# Altium footprint library PcbLib1.PcbLib: 27 footprints (part 3 of 4)
Each footprint in its own frame and in the unit in brackets; x right, y up, seen from the top. Pads: shape width x height; smd on the part's side, far side on the other; paste and mask are expansions set on the pad; w line width, h text height; cw(c..) or ccw(c..) is an arc to the next point about the centre after c.
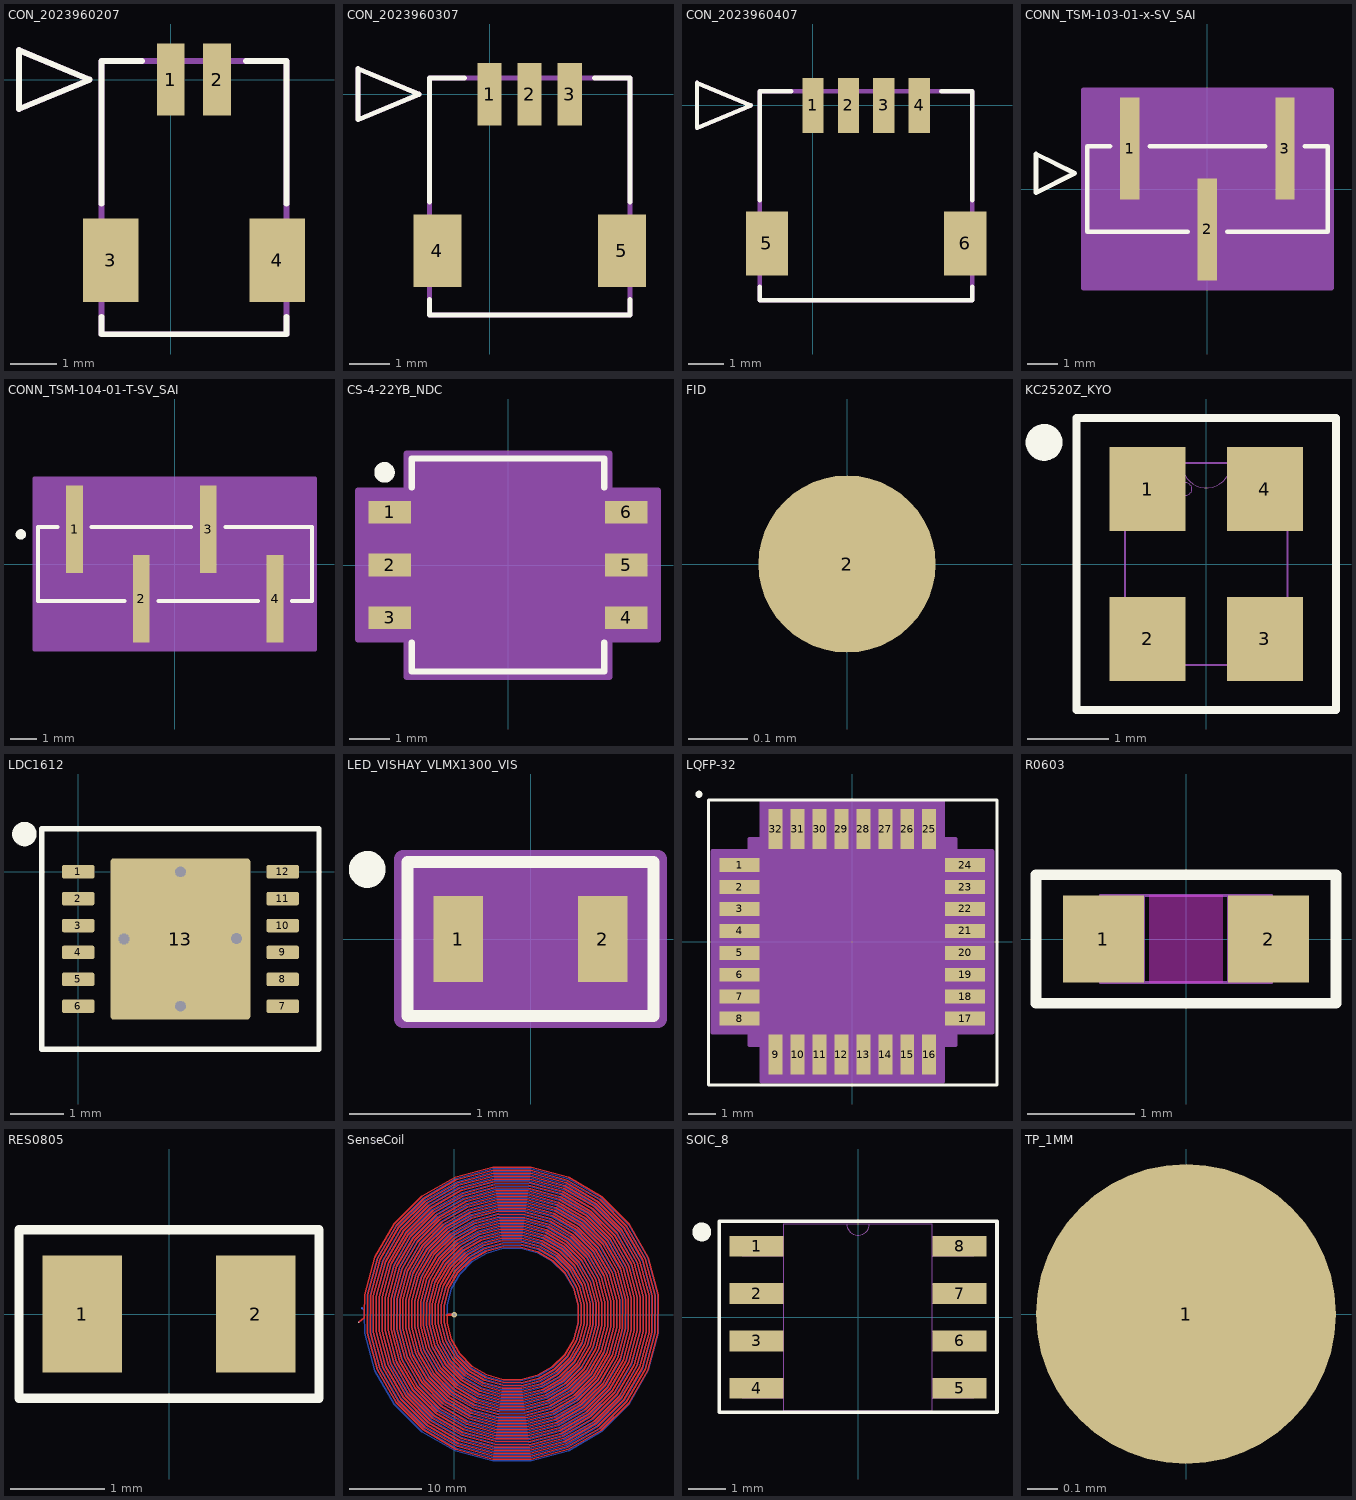
[diagram p2: the footprints below, top view; thin cyan lines are the x and y axes]

## CON_2023960207 [mm]
pads (4):
  rect 0.6x1.55 smd paste+0 mask+0.076: 1(0,0) 2(1,0)
  rect 1.2x1.8 smd paste+0 mask+0.076: 3(-1.3,-3.9) 4(2.3,-3.9)
Top Overlay:
  lines w0.127: -1.5,-5.12 -1.5,-5.5 2.5,-5.5 2.5,-5.12 ; -1.5,-2.68 -1.5,0.4 -0.62,0.4 ; 1.62,0.4 2.5,0.4 2.5,-2.68 ; -3.278,-0.635 -1.754,0 -3.278,0.635 -3.278,-0.635
Mechanical 13:
  lines w0.127: -3.278,-0.635 -1.754,0 -3.278,0.635 -3.278,-0.635 ; -1.5,-5.5 -1.5,0.4 2.5,0.4 2.5,-5.5 -1.5,-5.5
3D body "2023960207.stp": height 3.2, standoff 0.01, extent -1.5,-5.475 2.5,0.425

## CON_2023960307 [mm]
pads (5):
  rect 0.6x1.55 smd paste+0 mask+0.076: 1(0,0) 2(1,0) 3(2,0)
  rect 1.2x1.8 smd paste+0 mask+0.076: 4(-1.3,-3.9) 5(3.3,-3.9)
Top Overlay:
  lines w0.127: -1.5,-5.12 -1.5,-5.5 3.5,-5.5 3.5,-5.12 ; -1.5,-2.68 -1.5,0.4 -0.62,0.4 ; 2.62,0.4 3.5,0.4 3.5,-2.68 ; -3.278,-0.635 -1.754,0 -3.278,0.635 -3.278,-0.635
Mechanical 13:
  lines w0.127: -3.278,-0.635 -1.754,0 -3.278,0.635 -3.278,-0.635 ; -1.5,-5.5 -1.5,0.4 3.5,0.4 3.5,-5.5 -1.5,-5.5
3D body "2023960307.stp": height 3.2, standoff 0.01, extent -1.484,-5.469 3.516,0.431

## CON_2023960407 [mm]
pads (6):
  rect 0.6x1.55 smd paste+0 mask+0.076: 1(0,0) 2(1,0) 3(2,0) 4(3,0)
  rect 1.2x1.8 smd paste+0 mask+0.076: 5(-1.3,-3.9) 6(4.3,-3.9)
Top Overlay:
  lines w0.127: -1.5,-5.12 -1.5,-5.5 4.5,-5.5 4.5,-5.12 ; -1.5,-2.68 -1.5,0.4 -0.62,0.4 ; 3.62,0.4 4.5,0.4 4.5,-2.68 ; -3.278,-0.635 -1.754,0 -3.278,0.635 -3.278,-0.635
Mechanical 13:
  lines w0.127: -3.278,-0.635 -1.754,0 -3.278,0.635 -3.278,-0.635 ; -1.5,-5.5 -1.5,0.4 4.5,0.4 4.5,-5.5 -1.5,-5.5
3D body "2023960407.stp": height 3.2, standoff 0.01, extent -1.5,-5.475 4.5,0.425

## CONN_TSM-103-01-x-SV_SAI [mil]
pads (3):
  rect 25x131.56 smd paste+0 mask+0: 1(-100,52) 2(0,-52) 3(100,52)
Top Overlay:
  lines w6: -125.6,55 -155,55 -155,-55 -25.6,-55 ; -74.4,55 74.4,55 ; 25.6,-55 155,-55 155,55 125.6,55 ; -221.07,-4.72 -171.07,20.28 -221.07,45.28 -221.07,-4.72
Mechanical 13:
  lines w1: -221.07,45.28 -189.27,29.38 ; -150,-50 -150,50 150,50 150,-50 -150,-50
Mechanical 15:
  region: 160,-127.78 160,127.78 -160,127.78 -160,-127.78
  lines w6: -160,-127.78 160,-127.78 160,127.78 -160,127.78 -160,-127.78
3D body "CONN_TSM-103-01-x-SV_SAI.step": height 397.99, standoff 0, extent -150,-104.02 150,104.02

## CONN_TSM-104-01-T-SV_SAI [mil]
pads (4):
  rect 25x131.56 smd paste+0 mask+0: 1(-150,52) 2(-50,-52) 3(50,52) 4(150,-52)
Top Overlay:
  circle w10: c-230.31,44.29 r2.78
  lines w6: -175.6,55 -205,55 -205,-55 -75.6,-55 ; -124.4,55 24.4,55 ; -24.4,-55 124.4,-55 ; 75.6,55 205,55 205,-55 175.6,-55
Mechanical 13:
  lines w1: -200,-50 -200,50 200,50 200,-50 -200,-50
Mechanical 15:
  region: 210,-127.78 210,127.78 -210,127.78 -210,-127.78
  lines w6: -210,-127.78 210,-127.78 210,127.78 -210,127.78 -210,-127.78
3D body "CONN_TSM-104-01-T-SV_SAI.step": height 397.99, standoff 0, extent -200,-104.02 200,104.02

## CS-4-22YB_NDC [mil]
pads (6):
  rect 41.56x21.97 smd paste+0 mask+0: 1(-115,51.18) 2(-115,0) 3(-115,-51.18) 4(115,-51.18) 5(115,0) 6(115,51.18)
Top Overlay:
  circle w10: c-120,90 r5
  lines w6: -93.5,-75.25 -93.5,-103.5 93.5,-103.5 93.5,-75.25 ; -93.5,75.25 -93.5,103.5 93.5,103.5 93.5,75.25
Mechanical 13:
  lines w0: -12,98.5 ccw(c0,98.5) 12,98.5
  lines w1: -122,-61.18 -88.5,-61.18 -88.5,-41.18 -122,-41.18 -122,-61.18 ; -122,-10 -88.5,-10 -88.5,10 -122,10 -122,-10 ; -122,41.18 -88.5,41.18 -88.5,61.18 -122,61.18 -122,41.18 ; -88.5,-98.5 -88.5,98.5 88.5,98.5 88.5,-98.5 -88.5,-98.5 ; 88.5,-61.18 122,-61.18 122,-41.18 88.5,-41.18 88.5,-61.18 ; 88.5,-10 122,-10 122,10 88.5,10 88.5,-10 ; 88.5,41.18 122,41.18 122,61.18 88.5,61.18 88.5,41.18
  text "*" at -86,45.5 h50
Mechanical 15:
  region: -98.5,-72.17 -145.78,-72.17 -145.78,72.17 -98.5,72.17 -98.5,108.5 98.5,108.5 98.5,72.17 145.78,72.17 145.78,-72.17 98.5,-72.17 98.5,-108.5 -98.5,-108.5
  lines w6: -145.78,-72.17 -98.5,-72.17 -98.5,-108.5 98.5,-108.5 98.5,-72.17 145.78,-72.17 145.78,72.17 98.5,72.17 98.5,108.5 -98.5,108.5 -98.5,72.17 -145.78,72.17 -145.78,-72.17
3D body "CS-4-22YTB.stp": height 91.84, standoff 0.5, extent -122.05,-98.43 122.05,98.43

## FID [mm]
pads (1):
  round 0.3 smd paste-1 mask+0.5: 2(0,0)

## KC2520Z_KYO [mil]
pads (4):
  rect 37x41 smd paste+0 mask+0: 1(-28.5,36.42) 2(-28.5,-36.42) 3(28.5,-36.42) 4(28.5,36.42)
Top Overlay:
  circle w10: c-78.74,59.06 r3.94
  lines w3.94: -62.99,-70.87 62.99,-70.87 62.99,70.87 -62.99,70.87 -62.99,-70.87
Mechanical 13:
  circle w0: c-10,36.42 r3
  lines w0: -12,49 ccw(c0,49) 12,49
  lines w1: -39.5,-49 39.5,-49 39.5,49 -39.5,49 -39.5,-49
3D body "KC2520Z_KYO.step": height 32.09, standoff 0, extent -39.49,-49.02 39.49,49.02

## LDC1612 [mm]
pads (13):
  rrect25% 0.6x0.25 smd: 1(0,0) 2(0,-0.5) 3(0,-1) 4(0,-1.5) 5(0,-2) 6(0,-2.5) 7(3.8,-2.5) 8(3.8,-2) 9(3.8,-1.5) 10(3.8,-1) 11(3.8,-0.5) 12(3.8,0)
  rrect5% 2.6x3 smd paste-2.6 mask+0.102: 13(1.9,-1.25)
via 2.944,-1.241 diameter 0.3 hole 0.2
via 0.85,-1.25 diameter 0.3 hole 0.2
via 1.9,-2.5 diameter 0.3 hole 0.2
via 1.9,0 diameter 0.3 hole 0.2
Top Overlay:
  circle w0.254: c-1,0.7 r0.1
  lines w0.1: -0.675,-3.3 4.475,-3.3 4.475,0.8 -0.675,0.8 -0.675,-3.3
Top Paste:
  rectangle: 0.645,-2.575 1.795,-1.425
  rectangle: 2.005,-2.575 3.155,-1.425
  rectangle: 0.645,-1.075 1.795,0.075
  rectangle: 2.005,-1.075 3.155,0.075
3D body "DNT0012B.stp": height 0.8, standoff 0, extent -0.1,-3.25 3.9,0.75

## LED_VISHAY_VLMX1300_VIS [mil]
pads (2):
  rect 16x28 smd paste+0 mask+0: 1(-23.5,0) 2(23.5,0)
Top Overlay:
  circle w6: c-53.15,22.64 r3
  lines w3.94: -40,-25 40,-25 40,25 -40,25 -40,-25
Mechanical 13:
  circle w0: c0,0 r3
  lines w1: -31.5,-16 -31.5,16 31.5,16 31.5,-16 -31.5,-16
Mechanical 15:
  region: -41.5,-24 -41.5,24 -41.5,26 41.5,26 41.5,24 41.5,-24 41.5,-26 -41.5,-26
  lines w6: -41.5,-26 41.5,-26 41.5,-24 41.5,24 41.5,26 -41.5,26 -41.5,24 -41.5,-24 -41.5,-26
3D body "LED_VISHAY_VLMX1300_VIS.step": height 32.09, standoff 0, extent -31.5,-15.98 31.5,15.98

## LQFP-32 [mm]
pads (32):
  rect 1.462x0.507 smd paste+0 mask+0: 1(-4.115,2.8) 2(-4.115,2) 3(-4.115,1.2) 4(-4.115,0.4) 5(-4.115,-0.4) 6(-4.115,-1.2) 7(-4.115,-2) 8(-4.115,-2.8) 17(4.115,-2.8) 18(4.115,-2) 19(4.115,-1.2) 20(4.115,-0.4) 21(4.115,0.4) 22(4.115,1.2) 23(4.115,2) 24(4.115,2.8)
  rect 0.507x1.462 smd paste+0 mask+0: 9(-2.8,-4.115) 10(-2,-4.115) 11(-1.2,-4.115) 12(-0.4,-4.115) 13(0.4,-4.115) 14(1.2,-4.115) 15(2,-4.115) 16(2.8,-4.115) 25(2.8,4.115) 26(2,4.115) 27(1.2,4.115) 28(0.4,4.115) 29(-0.4,4.115) 30(-1.2,4.115) 31(-2,4.115) 32(-2.8,4.115)
Top Overlay:
  lines w0.1: -5.25,-5.225 -5.25,5.175 5.275,5.175 5.275,-5.225 -5.25,-5.225
  lines w0.254: -5.607,5.379 ccw(c-5.635,5.4) -5.6,5.4
Mechanical 13:
  lines w0.025: -3.505,2.235 -2.235,3.505 ; -4.496,-3.029 -3.505,-3.029 -3.505,-2.571 -4.496,-2.571 -4.496,-3.029 ; -4.496,-2.229 -3.505,-2.229 -3.505,-1.771 -4.496,-1.771 -4.496,-2.229 ; -4.496,-1.429 -3.505,-1.429 -3.505,-0.971 -4.496,-0.971 -4.496,-1.429 ; -4.496,-0.629 -3.505,-0.629 -3.505,-0.171 -4.496,-0.171 -4.496,-0.629 ; -4.496,0.171 -3.505,0.171 -3.505,0.629 -4.496,0.629 -4.496,0.171 ; -4.496,0.971 -3.505,0.971 -3.505,1.429 -4.496,1.429 -4.496,0.971 ; -4.496,1.771 -3.505,1.771 -3.505,2.229 -4.496,2.229 -4.496,1.771 ; -4.496,2.571 -3.505,2.571 -3.505,3.029 -4.496,3.029 -4.496,2.571 ; -3.505,-3.505 3.505,-3.505 3.505,3.505 -3.505,3.505 -3.505,-3.505 ; -3.029,-4.496 -2.571,-4.496 -2.571,-3.505 -3.029,-3.505 -3.029,-4.496 ; -3.029,3.505 -3.029,4.496 -2.571,4.496 -2.571,3.505 -3.029,3.505 ; -2.229,-4.496 -1.771,-4.496 -1.771,-3.505 -2.229,-3.505 -2.229,-4.496 ; -2.229,3.505 -2.229,4.496 -1.771,4.496 -1.771,3.505 -2.229,3.505 ; -1.429,-4.496 -0.971,-4.496 -0.971,-3.505 -1.429,-3.505 -1.429,-4.496 ; -1.429,3.505 -1.429,4.496 -0.971,4.496 -0.971,3.505 -1.429,3.505 ; -0.629,-4.496 -0.171,-4.496 -0.171,-3.505 -0.629,-3.505 -0.629,-4.496 ; -0.629,3.505 -0.629,4.496 -0.171,4.496 -0.171,3.505 -0.629,3.505 ; 0.171,-4.496 0.629,-4.496 0.629,-3.505 0.171,-3.505 0.171,-4.496 ; 0.171,3.505 0.171,4.496 0.629,4.496 0.629,3.505 0.171,3.505 ; 0.971,-4.496 1.429,-4.496 1.429,-3.505 0.971,-3.505 0.971,-4.496 ; 0.971,3.505 0.971,4.496 1.429,4.496 1.429,3.505 0.971,3.505 ; 1.771,-4.496 2.229,-4.496 2.229,-3.505 1.771,-3.505 1.771,-4.496 ; 1.771,3.505 1.771,4.496 2.229,4.496 2.229,3.505 1.771,3.505 ; 2.571,-4.496 3.029,-4.496 3.029,-3.505 2.571,-3.505 2.571,-4.496 ; 2.571,3.505 2.571,4.496 3.029,4.496 3.029,3.505 2.571,3.505 ; 3.505,-3.029 4.496,-3.029 4.496,-2.571 3.505,-2.571 3.505,-3.029 ; 3.505,-2.229 4.496,-2.229 4.496,-1.771 3.505,-1.771 3.505,-2.229 ; 3.505,-1.429 4.496,-1.429 4.496,-0.971 3.505,-0.971 3.505,-1.429 ; 3.505,-0.629 4.496,-0.629 4.496,-0.171 3.505,-0.171 3.505,-0.629 ; 3.505,0.171 4.496,0.171 4.496,0.629 3.505,0.629 3.505,0.171 ; 3.505,0.971 4.496,0.971 4.496,1.429 3.505,1.429 3.505,0.971 ; 3.505,1.771 4.496,1.771 4.496,2.229 3.505,2.229 3.505,1.771 ; 3.505,2.571 4.496,2.571 4.496,3.029 3.505,3.029 3.505,2.571
  text "*" at -3.442,2.565 h1.27
Mechanical 15:
  region: -3.308,-3.759 -3.759,-3.759 -3.759,-3.308 -5.1,-3.308 -5.1,3.308 -3.759,3.308 -3.759,3.759 -3.308,3.759 -3.308,5.1 3.308,5.1 3.308,3.759 3.759,3.759 3.759,3.308 5.1,3.308 5.1,-3.308 3.759,-3.308 3.759,-3.759 3.308,-3.759 3.308,-5.1 -3.308,-5.1
  lines w0.152: -5.1,-3.308 -5.1,3.308 -3.759,3.308 -3.759,3.759 -3.308,3.759 -3.308,5.1 3.308,5.1 3.308,3.759 3.759,3.759 3.759,3.308 5.1,3.308 5.1,-3.308 3.759,-3.308 3.759,-3.759 3.308,-3.759 3.308,-5.1 -3.308,-5.1 -3.308,-3.759 -3.759,-3.759 -3.759,-3.308 -5.1,-3.308
3D body "LQFP-32.step": height 1.6, standoff 0, extent -4.496,-4.496 4.496,4.496

## R0603 [mil]
pads (2):
  rect 29.78x32 smd paste+0 mask+0: 1(-30.39,0) 2(30.39,0)
Top Layer keep-out:
  region: -13.5,-14 -13.5,14 13.5,14 13.5,-14
Top Overlay:
  lines w3.94: -55.12,-23.62 55.12,-23.62 55.12,23.62 -55.12,23.62 -55.12,-23.62
Keep-Out Layer:
  region: -13.5,-16 -13.5,16 13.5,16 13.5,-16
Mechanical 13:
  lines w1: -31.5,-16 -31.5,16 ; -31.5,-16 31.5,-16 ; -31.5,-16 -15.5,-16 -15.5,16 -31.5,16 ; -31.5,-16 -31.5,16 ; -31.5,16 31.5,16 ; 31.5,-16 31.5,16 ; 31.5,-16 31.5,16 ; 31.5,-16 15.5,-16 15.5,16 31.5,16
3D body "RC0603N_YAG.step": height 27.99, standoff 0, extent -31.5,-15.98 31.5,15.98

## RES0805 [mm]
pads (2):
  rect 0.85x1.25 smd: 1(-0.925,0) 2(0.925,0)
Top Overlay:
  lines w0.1: -1.6,-0.9 -1.6,0.9 1.6,0.9 1.6,-0.9 -1.6,-0.9
3D body "RC0805N_PAN.step": height 0.71, standoff 0, extent -1,-0.6 1,0.6

## SenseCoil [mm]
pads (2):
  round 0.203 smd paste-1 mask-1: 1(-13.131,-1.064)
  round 0.2 smd far side paste-10 mask-10: 1(-12.7,0.9)
via 0,0 diameter 0.756 hole 0.35
Top Layer:
  lines w0.203: -13.129,-1.066 -12.339,-0.408 -12.339,0.1 -12.322,2.773 -10.923,7.93 -8.239,12.545 -4.455,16.305 0.17,18.956 5.318,20.317 10.639,20.3 15.77,18.908 20.362,16.237 24.104,12.472 26.741,7.871 28.096,2.748 28.079,-2.546 26.693,-7.651 24.036,-12.22 20.29,-15.943 15.712,-18.566 10.615,-19.914 5.347,-19.898 0.268,-18.519 -4.278,-15.875 -7.981,-12.148 -10.592,-7.593 -11.933,-2.522 -11.916,2.719 -10.544,7.773 -7.914,12.295 -4.205,15.98 0.326,18.577 5.372,19.911 10.586,19.894 15.614,18.529 20.113,15.912 23.778,12.222 26.362,7.714 27.689,2.695 27.672,-2.493 26.315,-7.495 23.711,-11.971 20.04,-15.617 15.555,-18.187 10.561,-19.508 5.401,-19.491 0.424,-18.14 -4.028,-15.55 -7.656,-11.898 -10.213,-7.436 -11.527,-2.468 -11.51,2.666 -10.166,7.616 -7.589,12.046 -3.956,15.655 0.483,18.198 5.425,19.505 10.532,19.488 15.457,18.151 19.863,15.587 23.453,11.973 25.983,7.557 27.283,2.641 27.266,-2.439 25.936,-7.338 23.386,-11.721 19.791,-15.292 15.398,-17.809 10.508,-19.102 5.454,-19.085 0.581,-17.761 -3.779,-15.225 -7.331,-11.648 -9.834,-7.279 -11.12,-2.415 -11.103,2.612 -9.787,7.459 -7.263,11.796 -3.706,15.329 0.64,17.819 5.479,19.098 10.479,19.081 15.3,17.772 19.614,15.262 23.128,11.724 25.605,7.4 26.877,2.588 26.859,-2.386 25.557,-7.181 23.06,-11.472 19.541,-14.967 15.241,-17.43 10.454,-18.695 5.507,-18.678 0.738,-17.383 -3.53,-14.899 -7.006,-11.399 -9.455,-7.122 -10.714,-2.361 -10.697,2.559 -9.408,7.302 -6.938,11.547 -3.457,15.004 0.797,17.441 5.532,18.692 10.425,18.675 15.143,17.393 19.364,14.936 22.803,11.474 25.226,7.243 26.47,2.534 26.453,-2.332 25.179,-7.024 22.735,-11.222 19.292,-14.642 15.084,-17.051 10.401,-18.289 5.561,-18.272 0.895,-17.004 -3.28,-14.574 -6.681,-11.149 -9.077,-6.965 -10.307,-2.308 -10.29,2.505 -9.029,7.146 -6.613,11.297 -3.207,14.679 0.954,17.062 5.586,18.285 10.372,18.268 14.986,17.015 19.115,14.611 22.478,11.225 24.847,7.087 26.064,2.481 26.047,-2.279 24.8,-6.867 22.41,-10.973 19.042,-14.317 14.927,-16.673 10.347,-17.882 5.615,-17.866 1.052,-16.625 -3.03,-14.249 -6.355,-10.9 -8.698,-6.808 -9.901,-2.254 -9.884,2.452 -8.651,6.989 -6.288,11.048 -2.958,14.354 1.111,16.683 5.639,17.879 10.318,17.862 14.829,16.636 18.865,14.286 22.153,10.975 24.468,6.93 25.657,2.427 25.64,-2.225 24.421,-6.71 22.085,-10.723 18.792,-13.991 14.77,-16.294 10.294,-17.476 5.668,-17.459 1.209,-16.247 -2.781,-13.924 -6.03,-10.65 -8.32,-6.651 -9.495,-2.201 -9.478,2.398 -8.272,6.832 -5.962,10.798 -2.708,14.029 1.268,16.305 5.693,17.473 10.265,17.456 14.672,16.257 18.616,13.961 21.827,10.725 24.09,6.773 25.251,2.374 25.234,-2.172 24.042,-6.553 21.759,-10.474 18.543,-13.666 14.614,-15.915 10.24,-17.07 5.722,-17.053 1.366,-15.868 -2.531,-13.598 -5.705,-10.401 -7.941,-6.495 -9.088,-2.147 -9.071,2.345 -7.893,6.675 -5.637,10.549 -2.458,13.703 1.424,15.926 5.746,17.066 10.211,17.049 14.516,15.878 18.366,13.636 21.502,10.476 23.711,6.616 24.845,2.32 24.827,-2.118 23.664,-6.396 21.434,-10.224 18.293,-13.341 14.457,-15.537 10.187,-16.663 5.775,-16.646 1.522,-15.489 -2.282,-13.273 -5.38,-10.151 -7.562,-6.338 -8.682,-2.094 -8.665,2.291 -7.515,6.518 -5.312,10.299 -2.209,13.378 1.581,15.547 5.8,16.66 10.158,16.643 14.359,15.5 18.117,13.311 21.177,10.226 23.332,6.459 24.438,2.267 24.421,-2.065 23.285,-6.24 21.109,-9.975 18.044,-13.016 14.3,-15.158 10.133,-16.257 5.829,-16.24 1.679,-15.111 -2.032,-12.948 -5.055,-9.902 -7.183,-6.181 -8.275,-2.04 -8.258,2.238 -7.136,6.361 -4.987,10.05 -1.96,13.053 1.738,15.168 5.853,16.253 10.104,16.236 14.202,15.121 17.867,12.985 20.852,9.977 22.954,6.302 24.032,2.213 24.015,-2.011 22.906,-6.083 20.784,-9.725 17.794,-12.691 14.143,-14.779 10.08,-15.85 5.882,-15.834 1.836,-14.732 -1.783,-12.623 -4.729,-9.652 -6.805,-6.024 -7.869,-1.987 -7.852,2.184 -6.757,6.204 -4.662,9.8 -1.71,12.728 1.895,14.79 5.907,15.847 10.051,15.83 14.045,14.742 17.618,12.66 20.527,9.727 22.575,6.145 23.625,2.16 23.608,-1.958 22.528,-5.926 20.459,-9.475 17.545,-12.365 13.986,-14.401 10.026,-15.444 5.936,-15.427 1.993,-14.353 -1.533,-12.298 -4.404,-9.403 -6.426,-5.867 -7.463,-1.933 -7.446,2.131 -6.379,6.047 -4.337,9.55 -1.46,12.403 2.052,14.411 5.96,15.441 9.997,15.424 13.888,14.364 17.368,12.335 20.201,9.478 22.196,5.989 23.219,2.106 23.202,-1.904 22.149,-5.769 20.134,-9.226 17.295,-12.04 13.829,-14.022 9.973,-15.038 5.989,-15.021 2.15,-13.975 -1.284,-11.973 -4.079,-9.153 -6.047,-5.71 -7.056,-1.88 -7.039,2.077 -6,5.891 -4.011,9.301 -1.211,12.077 2.209,14.032 6.014,15.034 9.944,15.017 13.731,13.985 17.119,12.01 19.876,9.228 21.818,5.832 22.813,2.053 22.795,-1.851 21.77,-5.612 19.808,-8.976 17.046,-11.715 13.672,-13.643 9.919,-14.631 6.043,-14.614 2.307,-13.596 -1.034,-11.647 -3.754,-8.904 -5.669,-5.553 -6.65,-1.826 -6.633,2.024 -5.621,5.734 -3.686,9.052 -0.961,11.752 2.366,13.654 6.067,14.628 9.89,14.611 13.574,13.606 16.869,11.685 19.551,8.979 21.439,5.675 22.406,1.999 22.389,-1.797 21.392,-5.455 19.483,-8.727 16.796,-11.39 13.516,-13.264 9.866,-14.225 6.096,-14.208 2.464,-13.217 -0.785,-11.322 -3.428,-8.654 -5.29,-5.396 -6.243,-1.773 -6.226,1.97 -5.242,5.577 -3.361,8.802 -0.712,11.427 2.523,13.275 6.121,14.221 9.837,14.204 13.418,13.228 16.619,11.359 19.226,8.729 21.06,5.518 22,1.946 21.983,-1.744 21.013,-5.298 19.158,-8.477 16.547,-11.064 13.359,-12.886 9.812,-13.818 6.15,-13.802 2.621,-12.838 -0.535,-10.997 -3.103,-8.405 -4.911,-5.24 -5.837,-1.719 -5.82,1.917 -4.864,5.42 -3.036,8.552 -0.462,11.102 2.679,12.896 6.174,13.815 9.783,13.798 13.261,12.849 16.37,11.034 18.9,8.48 20.681,5.361 21.593,1.892 21.576,-1.69 20.634,-5.142 18.833,-8.228 16.297,-10.739 13.202,-12.507 9.759,-13.412 6.203,-13.395 2.777,-12.46 -0.285,-10.672 -2.778,-8.155 -4.532,-5.083 -5.431,-1.665 -5.414,1.863 -4.485,5.263 -2.71,8.303 -0.213,10.777 2.836,12.517 6.228,13.409 9.73,13.392 13.104,12.47 16.12,10.709 18.575,8.23 20.303,5.204 21.187,1.839 21.17,-1.637 20.255,-4.985 18.507,-7.978 16.048,-10.414 13.045,-12.128 9.705,-13.006 6.257,-12.989 2.934,-12.081 -0.036,-10.346 -2.453,-7.905 -4.154,-4.926 -5.024,-1.612 -5.007,1.81 -4.106,5.106 -2.385,8.053 0.037,10.451 2.993,12.139 6.281,13.002 9.676,12.985 12.947,12.091 15.871,10.384 18.25,7.98 19.924,5.047 20.781,1.785 20.763,-1.583 19.877,-4.828 18.182,-7.729 15.798,-10.089 12.888,-11.75 9.652,-12.599 6.31,-12.582 3.091,-11.702 0.214,-10.021 -2.128,-7.656 -3.775,-4.769 -4.618,-1.559 -4.601,1.756 -3.728,4.949 -2.06,7.804 0.287,10.126 3.15,11.76 6.335,12.596 9.623,12.579 12.79,11.713 15.621,10.058 17.925,7.731 19.545,4.891 20.374,1.732 20.357,-1.53 19.498,-4.671 17.857,-7.479 15.549,-9.764 12.731,-11.371 9.598,-12.193 6.364,-12.176 3.248,-11.324 0.463,-9.696 -1.803,-7.406 -3.396,-4.612 -4.211,-1.505 -4.194,1.703 -3.349,4.792 -1.735,7.554 0.536,9.801 3.307,11.381 6.388,12.189 9.569,12.172 12.633,11.334 15.372,9.733 17.6,7.482 19.167,4.734 19.968,1.678 19.951,-1.476 19.119,-4.514 17.532,-7.23 15.299,-9.439 12.574,-10.992 9.545,-11.786 6.417,-11.77 3.405,-10.945 0.713,-9.371 -1.478,-7.157 -3.018,-4.455 -3.805,-1.452 -3.788,1.649 -2.97,4.635 -1.41,7.305 0.785,9.476 3.464,11.003 6.442,11.783 9.516,11.766 12.476,10.955 15.122,9.408 17.275,7.232 18.788,4.577 19.561,1.625 19.544,-1.423 18.741,-4.357 17.207,-6.98 15.05,-9.114 12.418,-10.613 9.491,-11.38 6.471,-11.363 3.562,-10.566 0.962,-9.046 -1.152,-6.907 -2.639,-4.298 -3.399,-1.398 -3.382,1.596 -2.592,4.479 -1.084,7.055 1.035,9.151 3.621,10.624 6.495,11.377 9.462,11.36 12.32,10.577 14.873,9.083 16.949,6.982 18.409,4.42 19.155,1.571 19.138,-1.369 18.362,-4.2 16.882,-6.73 14.8,-8.788 12.261,-10.235 9.438,-10.974 6.524,-10.957 3.719,-10.187 1.212,-8.721 -0.827,-6.658 -2.26,-4.142 -2.992,-1.345 -2.975,1.542 -2.213,4.322 -0.759,6.806 1.284,8.825 3.777,10.245 6.549,10.97 9.409,10.953 12.163,10.198 14.623,8.758 16.624,6.733 18.03,4.263 18.749,1.518 18.731,-1.316 17.983,-4.044 16.556,-6.481 14.55,-8.463 12.104,-9.856 9.384,-10.567 6.578,-10.55 3.876,-9.809 1.461,-8.395 -0.502,-6.408 -1.881,-3.985 -2.586,-1.291 -2.569,1.489 -1.834,4.165 -0.434,6.556 1.534,8.5 3.934,9.866 6.602,10.564 9.355,10.547 12.006,9.819 14.374,8.433 16.299,6.483 17.652,4.106 18.342,1.464 18.325,-1.262 17.604,-3.887 16.231,-6.231 14.301,-8.138 11.947,-9.477 9.331,-10.161 6.631,-10.144 4.033,-9.43 1.711,-8.07 -0.177,-6.159 -1.503,-3.828 -2.179,-1.237 -2.162,1.435 -1.455,4.008 -0.109,6.307 1.784,8.175 4.091,9.488 6.656,10.157 9.302,10.14 11.849,9.44 14.124,8.107 15.974,6.234 17.273,3.949 17.936,1.411 17.919,-1.209 17.226,-3.73 15.906,-5.982 14.051,-7.813 11.79,-9.099 9.277,-9.754 6.685,-9.738 4.189,-9.051 1.96,-7.745 0.149,-5.909 -1.124,-3.671 -1.773,-1.184 -1.756,1.382 -1.077,3.851 0.216,6.057 2.033,7.85 4.248,9.109 6.709,9.751 9.248,9.734 11.692,9.062 13.874,7.782 15.648,5.984 16.894,3.792 17.529,1.357 17.512,-1.155 16.847,-3.573 15.581,-5.732 13.802,-7.487 11.633,-8.72 9.224,-9.348 6.738,-9.331 4.346,-8.673 2.21,-7.42 0.474,-5.66 -0.745,-3.514 -1.367,-1.131 -1.35,1.328 -0.698,3.694 0.542,5.807 2.283,7.524 4.405,8.73 6.763,9.345 9.195,9.328 11.535,8.683 13.625,7.457 15.323,5.735 16.516,3.636 17.123,1.304 17.106,-1.102 16.468,-3.416 15.255,-5.483 13.552,-7.162 11.476,-8.341 9.17,-8.942 6.792,-8.925 4.503,-8.294 2.459,-7.094 0.799,-5.41 -0.367,-3.357 -0.96,-1.077 -0.946,-0.126
  lines w0.305: -0.946,-0.126 -0.82,0 0,0
Bottom Layer:
  lines w0.203: -12.708,0.915 -12.339,0.608 -12.339,0.1 -12.322,-2.573 -10.923,-7.73 -8.239,-12.345 -4.455,-16.105 0.17,-18.756 5.318,-20.118 10.639,-20.101 15.77,-18.708 20.362,-16.038 24.104,-12.273 26.741,-7.671 28.096,-2.548 28.079,2.746 26.693,7.851 24.036,12.42 20.29,16.142 15.712,18.766 10.615,20.114 5.347,20.097 0.268,18.719 -4.278,16.075 -7.981,12.347 -10.592,7.792 -11.933,2.722 -11.916,-2.519 -10.544,-7.573 -7.914,-12.095 -4.205,-15.78 0.326,-18.377 5.372,-19.711 10.586,-19.694 15.614,-18.33 20.113,-15.712 23.778,-12.023 26.362,-7.514 27.689,-2.495 27.672,2.692 26.315,7.694 23.711,12.171 20.04,15.817 15.555,18.387 10.561,19.708 5.401,19.691 0.424,18.34 -4.028,15.75 -7.656,12.098 -10.213,7.635 -11.527,2.668 -11.51,-2.466 -10.166,-7.416 -7.589,-11.846 -3.956,-15.455 0.483,-17.998 5.425,-19.305 10.532,-19.288 15.457,-17.951 19.863,-15.387 23.453,-11.773 25.983,-7.357 27.283,-2.441 27.266,2.639 25.936,7.538 23.386,11.921 19.791,15.492 15.398,18.009 10.508,19.301 5.454,19.284 0.581,17.961 -3.779,15.424 -7.331,11.848 -9.834,7.479 -11.12,2.614 -11.103,-2.412 -9.787,-7.259 -7.263,-11.597 -3.706,-15.13 0.64,-17.619 5.479,-18.898 10.479,-18.882 15.3,-17.572 19.614,-15.062 23.128,-11.524 25.605,-7.2 26.877,-2.388 26.859,2.585 25.557,7.381 23.06,11.672 19.541,15.167 15.241,17.63 10.454,18.895 5.507,18.878 0.738,17.583 -3.53,15.099 -7.006,11.599 -9.455,7.322 -10.714,2.561 -10.697,-2.359 -9.408,-7.103 -6.938,-11.347 -3.457,-14.804 0.797,-17.241 5.532,-18.492 10.425,-18.475 15.143,-17.194 19.364,-14.737 22.803,-11.274 25.226,-7.044 26.47,-2.335 26.453,2.532 25.179,7.224 22.735,11.422 19.292,14.842 15.084,17.251 10.401,18.489 5.561,18.472 0.895,17.204 -3.28,14.774 -6.681,11.349 -9.077,7.165 -10.307,2.507 -10.29,-2.305 -9.029,-6.946 -6.613,-11.098 -3.207,-14.479 0.954,-16.862 5.586,-18.086 10.372,-18.069 14.986,-16.815 19.115,-14.411 22.478,-11.025 24.847,-6.887 26.064,-2.281 26.047,2.479 24.8,7.067 22.41,11.172 19.042,14.516 14.927,16.872 10.347,18.082 5.615,18.065 1.052,16.825 -3.03,14.449 -6.355,11.1 -8.698,7.008 -9.901,2.454 -9.884,-2.252 -8.651,-6.789 -6.288,-10.848 -2.958,-14.154 1.111,-16.483 5.639,-17.679 10.318,-17.662 14.829,-16.436 18.865,-14.086 22.153,-10.775 24.468,-6.73 25.657,-2.227 25.64,2.425 24.421,6.91 22.085,10.923 18.792,14.191 14.77,16.494 10.294,17.676 5.668,17.659 1.209,16.447 -2.781,14.123 -6.03,10.85 -8.32,6.851 -9.495,2.4 -9.478,-2.198 -8.272,-6.632 -5.962,-10.598 -2.708,-13.829 1.268,-16.105 5.693,-17.273 10.265,-17.256 14.672,-16.057 18.616,-13.761 21.827,-10.526 24.09,-6.573 25.251,-2.174 25.234,2.372 24.042,6.753 21.759,10.673 18.543,13.866 14.614,16.115 10.24,17.269 5.722,17.252 1.366,16.068 -2.531,13.798 -5.705,10.601 -7.941,6.694 -9.088,2.347 -9.071,-2.145 -7.893,-6.475 -5.637,-10.349 -2.458,-13.504 1.424,-15.726 5.746,-16.866 10.211,-16.85 14.516,-15.679 18.366,-13.436 21.502,-10.276 23.711,-6.416 24.845,-2.12 24.827,2.318 23.664,6.596 21.434,10.424 18.293,13.541 14.457,15.736 10.187,16.863 5.775,16.846 1.522,15.689 -2.282,13.473 -5.38,10.351 -7.562,6.538 -8.682,2.293 -8.665,-2.091 -7.515,-6.318 -5.312,-10.099 -2.209,-13.178 1.581,-15.347 5.8,-16.46 10.158,-16.443 14.359,-15.3 18.117,-13.111 21.177,-10.026 23.332,-6.259 24.438,-2.067 24.421,2.264 23.285,6.439 21.109,10.174 18.044,13.216 14.3,15.358 10.133,16.457 5.829,16.44 1.679,15.31 -2.032,13.148 -5.055,10.102 -7.183,6.381 -8.275,2.24 -8.258,-2.038 -7.136,-6.161 -4.987,-9.85 -1.96,-12.853 1.738,-14.968 5.853,-16.054 10.104,-16.037 14.202,-14.921 17.867,-12.786 20.852,-9.777 22.954,-6.102 24.032,-2.013 24.015,2.211 22.906,6.283 20.784,9.925 17.794,12.89 14.143,14.979 10.08,16.05 5.882,16.033 1.836,14.932 -1.783,12.823 -4.729,9.852 -6.805,6.224 -7.869,2.186 -7.852,-1.985 -6.757,-6.004 -4.662,-9.6 -1.71,-12.528 1.895,-14.59 5.907,-15.647 10.051,-15.63 14.045,-14.543 17.618,-12.46 20.527,-9.528 22.575,-5.946 23.625,-1.96 23.608,2.157 22.528,6.126 20.459,9.675 17.545,12.565 13.986,14.6 10.026,15.644 5.936,15.627 1.993,14.553 -1.533,12.498 -4.404,9.602 -6.426,6.067 -7.463,2.133 -7.446,-1.931 -6.379,-5.848 -4.337,-9.351 -1.46,-12.203 2.052,-14.211 5.96,-15.241 9.997,-15.224 13.888,-14.164 17.368,-12.135 20.201,-9.278 22.196,-5.789 23.219,-1.907 23.202,2.104 22.149,5.969 20.134,9.426 17.295,12.24 13.829,14.222 9.973,15.237 5.989,15.22 2.15,14.174 -1.284,12.172 -4.079,9.353 -6.047,5.91 -7.056,2.079 -7.039,-1.877 -6,-5.691 -4.011,-9.101 -1.211,-11.878 2.209,-13.832 6.014,-14.834 9.944,-14.818 13.731,-13.785 17.119,-11.81 19.876,-9.028 21.818,-5.632 22.813,-1.853 22.795,2.05 21.77,5.812 19.808,9.176 17.046,11.915 13.672,13.843 9.919,14.831 6.043,14.814 2.307,13.796 -1.034,11.847 -3.754,9.103 -5.669,5.753 -6.65,2.026 -6.633,-1.824 -5.621,-5.534 -3.686,-8.852 -0.961,-11.552 2.366,-13.454 6.067,-14.428 9.89,-14.411 13.574,-13.406 16.869,-11.485 19.551,-8.779 21.439,-5.475 22.406,-1.799 22.389,1.997 21.392,5.655 19.483,8.927 16.796,11.59 13.516,13.464 9.866,14.425 6.096,14.408 2.464,13.417 -0.785,11.522 -3.428,8.854 -5.29,5.596 -6.243,1.972 -6.226,-1.77 -5.242,-5.377 -3.361,-8.602 -0.712,-11.227 2.523,-13.075 6.121,-14.022 9.837,-14.005 13.418,-13.028 16.619,-11.159 19.226,-8.529 21.06,-5.318 22,-1.746 21.983,1.943 21.013,5.498 19.158,8.677 16.547,11.264 13.359,13.086 9.812,14.018 6.15,14.001 2.621,13.038 -0.535,11.197 -3.103,8.605 -4.911,5.439 -5.837,1.919 -5.82,-1.717 -4.864,-5.22 -3.036,-8.353 -0.462,-10.902 2.679,-12.696 6.174,-13.615 9.783,-13.598 13.261,-12.649 16.37,-10.834 18.9,-8.28 20.681,-5.161 21.593,-1.692 21.576,1.89 20.634,5.342 18.833,8.428 16.297,10.939 13.202,12.707 9.759,13.612 6.203,13.595 2.777,12.66 -0.285,10.871 -2.778,8.355 -4.532,5.283 -5.431,1.865 -5.414,-1.663 -4.485,-5.063 -2.71,-8.103 -0.213,-10.577 2.836,-12.317 6.228,-13.209 9.73,-13.192 13.104,-12.27 16.12,-10.509 18.575,-8.03 20.303,-5.004 21.187,-1.639 21.17,1.836 20.255,5.185 18.507,8.178 16.048,10.614 13.045,12.328 9.705,13.205 6.257,13.188 2.934,12.281 -0.036,10.546 -2.453,8.105 -4.154,5.126 -5.024,1.812 -5.007,-1.61 -4.106,-4.906 -2.385,-7.853 0.037,-10.252 2.993,-11.939 6.281,-12.802 9.676,-12.786 12.947,-11.892 15.871,-10.184 18.25,-7.781 19.924,-4.848 20.781,-1.585 20.763,1.783 19.877,5.028 18.182,7.929 15.798,10.289 12.888,11.949 9.652,12.799 6.31,12.782 3.091,11.902 0.214,10.221 -2.128,7.856 -3.775,4.969 -4.618,1.758 -4.601,-1.557 -3.728,-4.75 -2.06,-7.604 0.287,-9.926 3.15,-11.56 6.335,-12.396 9.623,-12.379 12.79,-11.513 15.621,-9.859 17.925,-7.531 19.545,-4.691 20.374,-1.532 20.357,1.729 19.498,4.871 17.857,7.679 15.549,9.964 12.731,11.571 9.598,12.393 6.364,12.376 3.248,11.523 0.463,9.896 -1.803,7.606 -3.396,4.812 -4.211,1.705 -4.194,-1.503 -3.349,-4.593 -1.735,-7.354 0.536,-9.601 3.307,-11.182 6.388,-11.99 9.569,-11.973 12.633,-11.134 15.372,-9.533 17.6,-7.282 19.167,-4.534 19.968,-1.478 19.951,1.676 19.119,4.714 17.532,7.429 15.299,9.638 12.574,11.192 9.545,11.986 6.417,11.969 3.405,11.145 0.713,9.571 -1.478,7.357 -3.018,4.655 -3.805,1.652 -3.788,-1.449 -2.97,-4.436 -1.41,-7.105 0.785,-9.276 3.464,-10.803 6.442,-11.583 9.516,-11.566 12.476,-10.755 15.122,-9.208 17.275,-7.032 18.788,-4.377 19.561,-1.425 19.544,1.622 18.741,4.557 17.207,7.18 15.05,9.313 12.418,10.813 9.491,11.58 6.471,11.563 3.562,10.766 0.962,9.246 -1.152,7.107 -2.639,4.498 -3.399,1.598 -3.382,-1.396 -2.592,-4.279 -1.084,-6.855 1.035,-8.951 3.621,-10.424 6.495,-11.177 9.462,-11.16 12.32,-10.377 14.873,-8.883 16.949,-6.783 18.409,-4.22 19.155,-1.371 19.138,1.569 18.362,4.4 16.882,6.93 14.8,8.988 12.261,10.435 9.438,11.173 6.524,11.156 3.719,10.387 1.212,8.92 -0.827,6.857 -2.26,4.341 -2.992,1.544 -2.975,-1.342 -2.213,-4.122 -0.759,-6.606 1.284,-8.626 3.777,-10.045 6.549,-10.77 9.409,-10.754 12.163,-9.998 14.623,-8.558 16.624,-6.533 18.03,-4.063 18.749,-1.318 18.731,1.515 17.983,4.243 16.556,6.681 14.55,8.663 12.104,10.056 9.384,10.767 6.578,10.75 3.876,10.009 1.461,8.595 -0.502,6.608 -1.881,4.185 -2.586,1.491 -2.569,-1.289 -1.834,-3.965 -0.434,-6.356 1.534,-8.3 3.934,-9.667 6.602,-10.364 9.355,-10.347 12.006,-9.619 14.374,-8.233 16.299,-6.283 17.652,-3.906 18.342,-1.264 18.325,1.462 17.604,4.087 16.231,6.431 14.301,8.338 11.947,9.677 9.331,10.361 6.631,10.344 4.033,9.63 1.711,8.27 -0.177,6.358 -1.503,4.028 -2.179,1.437 -2.162,-1.235 -1.455,-3.808 -0.109,-6.107 1.784,-7.975 4.091,-9.288 6.656,-9.958 9.302,-9.941 11.849,-9.241 14.124,-7.908 15.974,-6.034 17.273,-3.75 17.936,-1.211 17.919,1.408 17.226,3.93 15.906,6.182 14.051,8.012 11.79,9.298 9.277,9.954 6.685,9.937 4.189,9.251 1.96,7.945 0.149,6.109 -1.124,3.871 -1.773,1.384 -1.756,-1.182 -1.077,-3.652 0.216,-5.857 2.033,-7.65 4.248,-8.909 6.709,-9.551 9.248,-9.534 11.692,-8.862 13.874,-7.582 15.648,-5.784 16.894,-3.593 17.529,-1.157 17.512,1.355 16.847,3.773 15.581,5.932 13.802,7.687 11.633,8.92 9.224,9.548 6.738,9.531 4.346,8.872 2.21,7.619 0.474,5.86 -0.745,3.714 -1.367,1.33 -1.35,-1.128 -0.698,-3.495 0.542,-5.608 2.283,-7.325 4.405,-8.531 6.763,-9.145 9.195,-9.128 11.535,-8.483 13.625,-7.257 15.323,-5.535 16.516,-3.436 17.123,-1.104 17.106,1.301 16.468,3.616 15.255,5.683 13.552,7.362 11.476,8.541 9.17,9.141 6.792,9.124 4.503,8.494 2.459,7.294 0.799,5.61 -0.367,3.557 -0.96,1.277 -0.943,0.1
  lines w0.305: -0.943,0.1 -0.843,0 0,0

## SOIC_8 [mm]
pads (8):
  rect 1.455x0.558 smd paste+0 mask+0: 1(-2.721,1.905) 2(-2.721,0.635) 3(-2.721,-0.635) 4(-2.721,-1.905) 5(2.721,-1.905) 6(2.721,-0.635) 7(2.721,0.635) 8(2.721,1.905)
Top Overlay:
  circle w0.254: c-4.191,2.286 r0.127
  lines w0.1: -3.725,-2.55 -3.725,2.575 3.725,2.575 3.725,-2.55 -3.725,-2.55
Mechanical 13:
  lines w0: -0.305,2.502 ccw(c0,2.502) 0.305,2.502
  lines w0.025: -3.099,-2.159 -1.994,-2.159 -1.994,-1.651 -3.099,-1.651 -3.099,-2.159 ; -3.099,-0.889 -1.994,-0.889 -1.994,-0.381 -3.099,-0.381 -3.099,-0.889 ; -3.099,0.381 -1.994,0.381 -1.994,0.889 -3.099,0.889 -3.099,0.381 ; -3.099,1.651 -1.994,1.651 -1.994,2.159 -3.099,2.159 -3.099,1.651 ; -1.994,-2.502 -1.994,2.502 1.994,2.502 1.994,-2.502 -1.994,-2.502 ; 1.994,-2.159 3.099,-2.159 3.099,-1.651 1.994,-1.651 1.994,-2.159 ; 1.994,-0.889 3.099,-0.889 3.099,-0.381 1.994,-0.381 1.994,-0.889 ; 1.994,0.381 3.099,0.381 3.099,0.889 1.994,0.889 1.994,0.381 ; 1.994,1.651 3.099,1.651 3.099,2.159 1.994,2.159 1.994,1.651
3D body "D8.step": height 1.76, standoff 0, extent -3.099,-2.502 3.099,2.502

## TP_1MM [mm] "1mm test point"
pads (1):
  round 1 smd paste-1 mask+0.102: 1(0,0)